# EAGLE library part 53100C (library 53100C)
Murata Power Solutions Current Transformer, , 10A Input, Source: Datasheet <https://www.mouser.com/datasheet/2/281/kmp_5300c-51810.pdf>
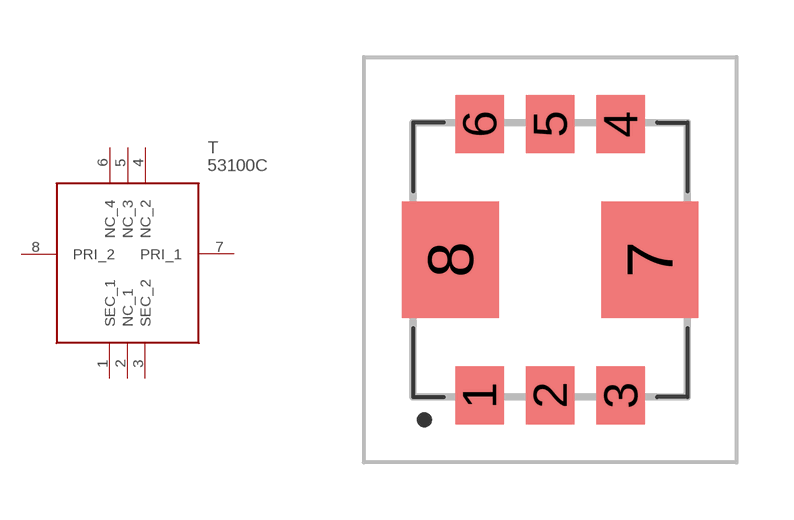
[diagram p0: symbol with the pads of 53100C; footprint 53100C]

Designator prefix T

## 53100C (Arrow_Part_Number: 53100C; Arrow_Price-Stock: https://www.arrow.com/en/products/53100c/murata-power-solutions; Description: Murata Power Solutions Current Transformer, , 10A Input,; Height: 5.65mm; Manufacturer_Name: Murata Electronics; Manufacturer_Part_Number: 53100C; Mouser_Part_Number: 580-53100C; Mouser_Price-Stock: https://www.mouser.co.uk/ProductDetail/Murata-Power-Solutions/53100C?qs=RJ0JL0kt8YyWMnwQulxMKA%3D%3D)  [53100C]
1  SEC_1
2  NC_1
3  SEC_2
4  NC_2
5  NC_3
6  NC_4
7  PRI_1
8  PRI_2

## Footprint 53100C (pad centres in mm)
53100C-3
smd 1.27 x 1.52: 1 -1.85,-3.555; 2 0,-3.555; 3 1.85,-3.555; 4 1.85,3.555; 5 0,3.555; 6 -1.85,3.555
smd 2.54 x 3.05: 7 2.615,0; 8 -2.615,0